# EAGLE library part MAX17055 (library balto)
7μA 1-Cell Fuel Gauge with ModelGauge m5 EZ
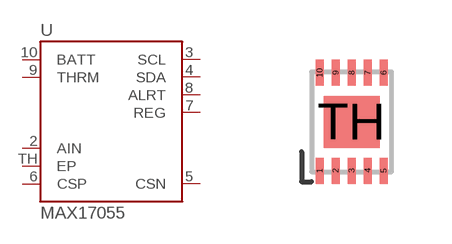
[diagram p64: symbol with the pads of TDFN10-2X2.5; footprint TDFN10-2X2.5]

Designator prefix U

## MAX17055  [TDFN10-2X2.5]
2  AIN
3  SCL
4  SDA
5  CSN
6  CSP
7  REG
8  ALRT
9  THRM
10  BATT
TH  EP

## Footprint TDFN10-2X2.5 (pad centres in mm)
TDFN10 2x2.5mm
smd 0.2 x 0.65: 1 -0.8,-1.225; 2 -0.4,-1.225; 3 0,-1.225; 4 0.4,-1.225; 5 0.8,-1.225; 6 0.8,1.225; 7 0.4,1.225; 8 0,1.225; 9 -0.4,1.225; 10 -0.8,1.225
smd 1.4 x 1.3: TH 0,0